# EAGLE library part LPC1114FDH28 (library lpc1114fn28)
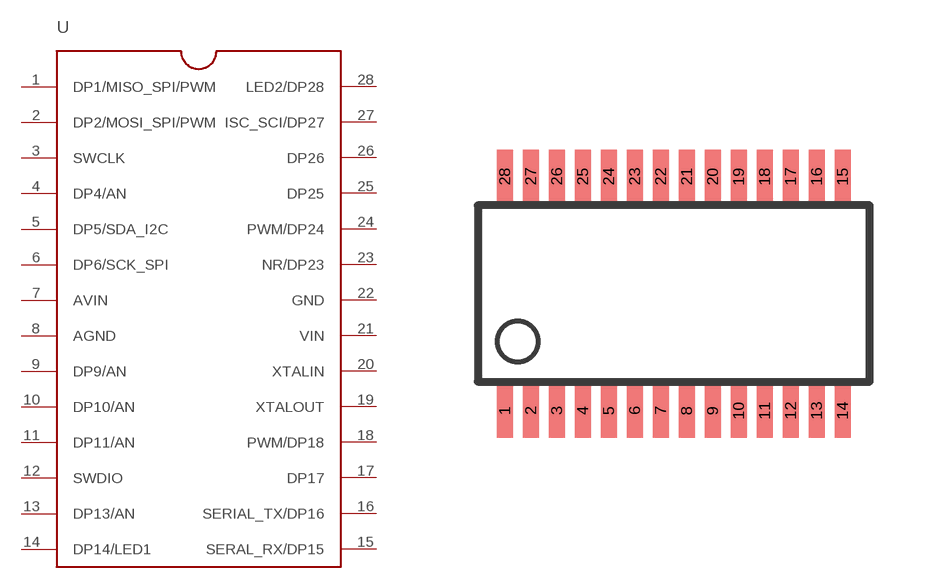
[diagram p1: symbol with the pads of TSSOP28; footprint TSSOP28]

Designator prefix -

## LPC1114FDH28  [TSSOP28]
1  DP1/MISO_SPI/PWM
2  DP2/MOSI_SPI/PWM
3  SWCLK
4  DP4/AN
5  DP5/SDA_I2C
6  DP6/SCK_SPI
7  AVIN  pwr
8  AGND  pwr
9  DP9/AN
10  DP10/AN
11  DP11/AN
12  SWDIO
13  DP13/AN
14  DP14/LED1
15  SERAL_RX/DP15
16  SERIAL_TX/DP16
17  DP17
18  PWM/DP18
19  XTALOUT  out
20  XTALIN  in
21  VIN  pwr
22  GND  pwr
23  NR/DP23
24  PWM/DP24
25  DP25
26  DP26
27  ISC_SCI/DP27
28  LED2/DP28

## Footprint TSSOP28 (pad centres in mm)
smd 0.4 x 1.35: 1 -4.225,-2.925; 2 -3.575,-2.925; 3 -2.925,-2.925; 4 -2.275,-2.925; 5 -1.625,-2.925; 6 -0.975,-2.925; 7 -0.325,-2.925; 8 0.325,-2.925; 9 0.975,-2.925; 10 1.625,-2.925; 11 2.275,-2.925; 12 2.925,-2.925; 13 3.575,-2.925; 14 4.225,-2.925; 15 4.225,2.925; 16 3.575,2.925; 17 2.925,2.925; 18 2.275,2.925; 19 1.625,2.925; 20 0.975,2.925; 21 0.325,2.925; 22 -0.325,2.925; 23 -0.975,2.925; 24 -1.625,2.925; 25 -2.275,2.925; 26 -2.925,2.925; 27 -3.575,2.925; 28 -4.225,2.925